# Altium schematic symbol library STM32G0C1MET6.SchLib: 1 symbol
Pins are listed as number, name and electrical type; pins without a type are passive.

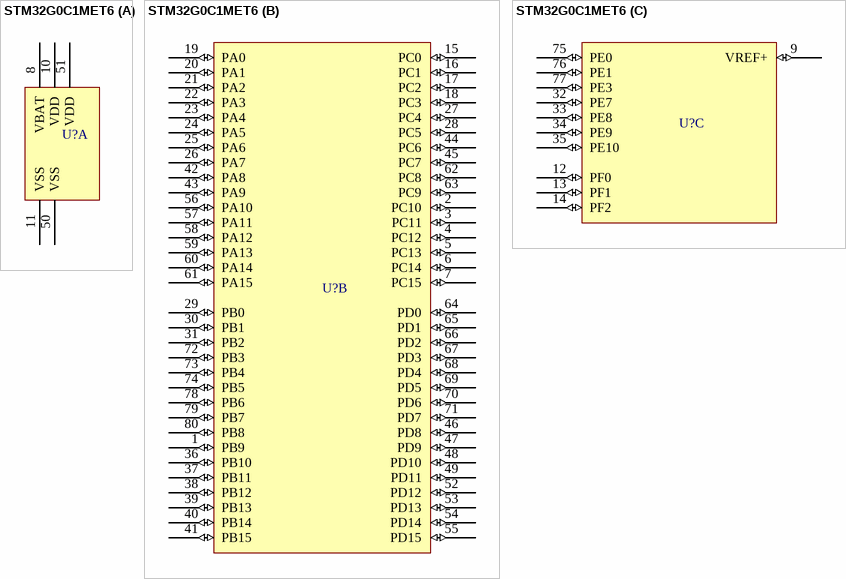
[diagram p0: symbol STM32G0C1MET6]

## STM32G0C1MET6
designator U?  (value not drawn)
Mainstream Arm Cortex-M0+ 32-bit MCU, up to 512KB Flash, 144KB RAM, 6x USART, timers, ADC, DAC, comm. I/Fs, AES, RNG, 1.7-3.6V
part A pins: 8 VBAT (power), 10 VDD (power), 11 VSS (power), 50 VSS (power), 51 VDD (power)
part B pins: 1 PB9 (io), 2 PC10 (io), 3 PC11 (io), 4 PC12 (io), 5 PC13 (io), 6 PC14 (io), 7 PC15 (io), 15 PC0 (io), 16 PC1 (io), 17 PC2 (io), 18 PC3 (io), 19 PA0 (io), 20 PA1 (io), 21 PA2 (io), 22 PA3 (io), 23 PA4 (io), 24 PA5 (io), 25 PA6 (io), 26 PA7 (io), 27 PC4 (io), 28 PC5 (io), 29 PB0 (io), 30 PB1 (io), 31 PB2 (io), 36 PB10 (io), 37 PB11 (io), 38 PB12 (io), 39 PB13 (io), 40 PB14 (io), 41 PB15 (io), 42 PA8 (io), 43 PA9 (io), 44 PC6 (io), 45 PC7 (io), 46 PD8 (io), 47 PD9 (io), 48 PD10 (io), 49 PD11 (io), 52 PD12 (io), 53 PD13 (io), 54 PD14 (io), 55 PD15 (io), 56 PA10 (io), 57 PA11 (io), 58 PA12 (io), 59 PA13 (io), 60 PA14 (io), 61 PA15 (io), 62 PC8 (io), 63 PC9 (io), 64 PD0 (io), 65 PD1 (io), 66 PD2 (io), 67 PD3 (io), 68 PD4 (io), 69 PD5 (io), 70 PD6 (io), 71 PD7 (io), 72 PB3 (io), 73 PB4 (io), 74 PB5 (io), 78 PB6 (io), 79 PB7 (io), 80 PB8 (io)
part C pins: 9 VREF+ (io), 12 PF0 (io), 13 PF1 (io), 14 PF2 (io), 32 PE7 (io), 33 PE8 (io), 34 PE9 (io), 35 PE10 (io), 75 PE0 (io), 76 PE1 (io), 77 PE3 (io)